# Altium integrated library Switches.IntLib: 20 symbols
Pins are listed as number, name and electrical type; pins without a type are passive.

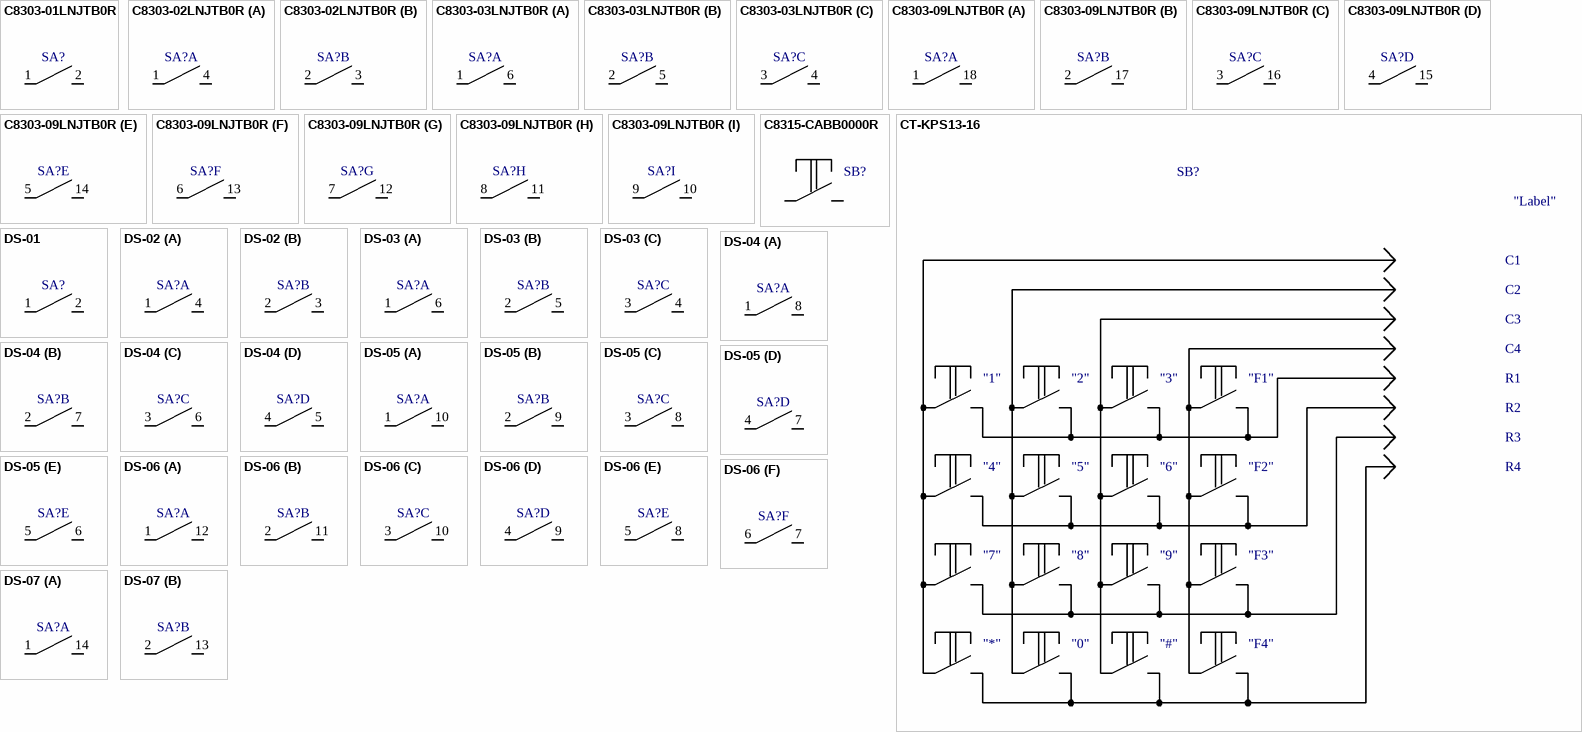
[diagram p0: symbols C8303-01LNJTB0R to DS-07]

## C8303-01LNJTB0R
designator SA?  (value not drawn)
DIP switch SMT; Manufacturer: Hsuan Mao Technology; PartNumber: C8303-01LNJTB0R; Name: Переключатель C8303-01LNJTB0R; 1Ccode: *; 1Cname: *; 1CfullName: *; 1Cgroup: *; 1Carticle: *; ComponentLink1Description: DatasheetLink; ComponentLink1URL: http://www.hsm.net.tw/upload_file/img_fckeditor/file/C8-SPEC/C8303-01XXJXB0R(S362).pdf; Case: *
footprint C8303-01 (2.54mm Dip Switch SMT)
pins: 1, 2

## C8303-02LNJTB0R
designator SA?  (value not drawn)
DIP switch SMT; Manufacturer: Hsuan Mao Technology; PartNumber: C8303-03LNJTB0R; Name: Переключатель C8303-03LNJTB0R; 1Ccode: *; 1Cname: *; 1CfullName: *; 1Cgroup: *; 1Carticle: *; ComponentLink1Description: DatasheetLink; ComponentLink1URL: http://www.hsm.net.tw/upload_file/img_fckeditor/file/C8-SPEC/C8303-XXXXJXB0R(S362)02~12P.pdf; Case: *
footprint C8303-02 (2.54mm Dip Switch SMT)
part A pins: 1, 4
part B pins: 2, 3

## C8303-03LNJTB0R
designator SA?  (value not drawn)
DIP switch SMT; Manufacturer: Hsuan Mao Technology; PartNumber: C8303-03LNJTB0R; Name: Переключатель C8303-03LNJTB0R; 1Ccode: *; 1Cname: *; 1CfullName: *; 1Cgroup: *; 1Carticle: *; ComponentLink1Description: DatasheetLink; ComponentLink1URL: http://www.hsm.net.tw/upload_file/img_fckeditor/file/C8-SPEC/C8303-XXXXJXB0R(S362)02~12P.pdf; Case: *
footprint C8303-03 (2.54mm Dip Switch SMT)
part A pins: 1, 6
part B pins: 2, 5
part C pins: 3, 4

## C8303-09LNJTB0R
designator SA?  (value not drawn)
DIP switch SMT; Manufacturer: Hsuan Mao Technology; PartNumber: C8303-09LNJTB0R; Name: Переключатель C8303-09LNJTB0R; 1Ccode: *; 1Cname: *; 1CfullName: *; 1Cgroup: *; 1Carticle: *; ComponentLink1Description: DatasheetLink; ComponentLink1URL: http://www.hsm.net.tw/upload_file/img_fckeditor/file/C8-SPEC/C8303-XXXXJXB0R(S362)02~12P.pdf; Case: *
footprint C8303-09 (2.54mm Dip Switch SMT)
part A pins: 1, 18
part B pins: 2, 17
part C pins: 3, 16
part D pins: 4, 15
part E pins: 5, 14
part F pins: 6, 13
part G pins: 7, 12
part H pins: 8, 11
part I pins: 9, 10

## C8315-CABB0000R
designator SB?  (value not drawn)
Tact Switch 7mm; Manufacturer: Hsuan Mao Technology; PartNumber: C8315-CABB0000R; 1Ccode: М00046460; 1Cname: КнопкаTS-A3PS-130 (C8315-CABBOOOO HSM) SWT-6х6х7; 1Cgroup: 01010802; 1Carticle: 35137; Name: Кнопка C8315-CABB0000R; 1CfullName: КнопкаTS-A3PS-130 (C8315-CABBOOOO HSM) SWT-6х6х7; ComponentLink1Description: DatasheetLink; ComponentLink1URL: *
footprint C8315 (Tact button 6mm)
pins: 1, 2

## CT-KPS13-16
designator SB?  Circuit4: C4  Circuit5: R1  Circuit6: R2  Circuit7: R3  Circuit8: R4  Circuit3: C3  Circuit1: C1  Circuit2: C2  Label: "Label"  (hidden comment: *)
Keypad 8 keys
footprint CT-KPS13-16 (Keypad 16 keys)
2 alternate drawings of the same symbol
text: "1"; "2"; "3"; "F1"; "4"; "5"; "6"; "F2"; "7"; "8"; "9"; "F3"; "*"; "0"; "#"; "F4"

## DS-01
designator SA?  (value not drawn)
DIP switch; 1Ccode: *; 1Cname: *; 1CfullName: *; 1Cgroup: *; 1Carticle: *; Manufacturer: *; Name: *; PartNumber: *; ComponentLink1Description: DatasheetLink; ComponentLink1URL: *; Case: *
footprint DS-01 (Side Type Dip Switch)
pins: 1, 2

## DS-02
designator SA?  (value not drawn)
DIP switch
footprint DS-02 (Side Type Dip Switch)
part A pins: 1, 4
part B pins: 2, 3

## DS-03
designator SA?  (value not drawn)
DIP switch; 1Ccode: *; 1Cname: *; 1CfullName: *; 1Cgroup: *; 1Carticle: *; Manufacturer: *; Name: *; PartNumber: *; ComponentLink1Description: DatasheetLink; ComponentLink1URL: *; Case: *
footprint DS-03 (Side Type Dip Switch)
part A pins: 1, 6
part B pins: 2, 5
part C pins: 3, 4

## DS-04
designator SA?  (value not drawn)
DIP switch
footprint DS-04 (Side Type Dip Switch)
part A pins: 1, 8
part B pins: 2, 7
part C pins: 3, 6
part D pins: 4, 5

## DS-05
designator SA?  (value not drawn)
DIP switch
footprint DS-05 (Side Type Dip Switch)
part A pins: 1, 10
part B pins: 2, 9
part C pins: 3, 8
part D pins: 4, 7
part E pins: 5, 6

## DS-06
designator SA?  (value not drawn)
DIP switch
footprint DS-06 (Side Type Dip Switch)
part A pins: 1, 12
part B pins: 2, 11
part C pins: 3, 10
part D pins: 4, 9
part E pins: 5, 8
part F pins: 6, 7

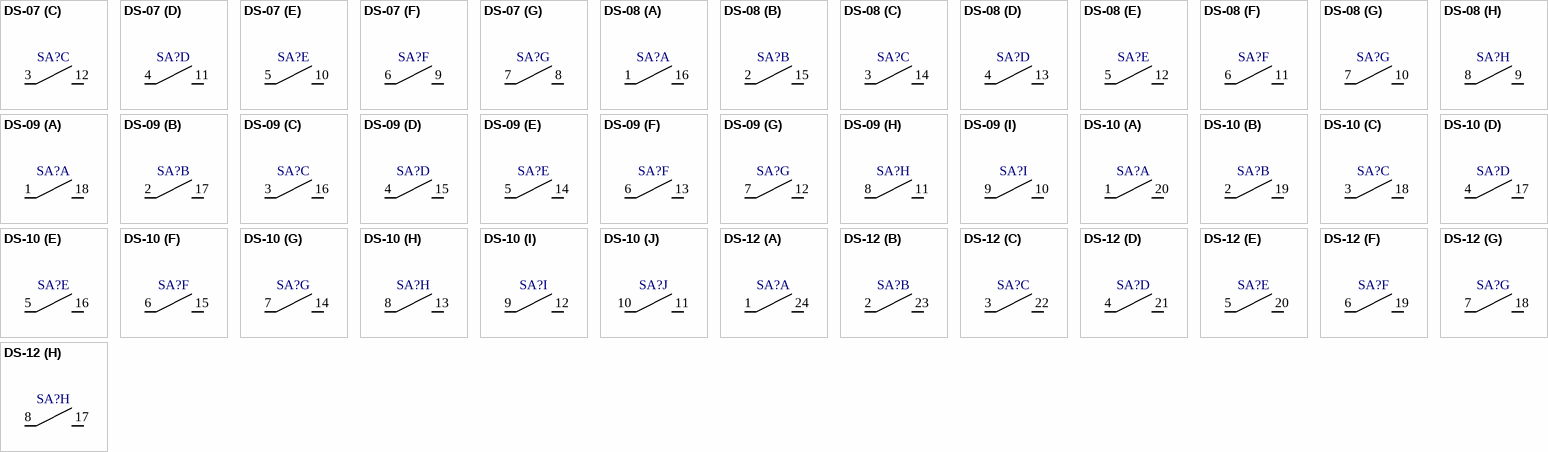
[diagram p1: symbols DS-07 to DS-12]

## DS-07
designator SA?  (value not drawn)
DIP switch
footprint DS-07 (DS-Side Type Dip Switch)
part A pins: 1, 14
part B pins: 2, 13
part C pins: 3, 12
part D pins: 4, 11
part E pins: 5, 10
part F pins: 6, 9
part G pins: 7, 8

## DS-08
designator SA?  (value not drawn)
DIP switch
footprint DS-08 (KLS7-DS-Side Type Dip Switch)
part A pins: 1, 16
part B pins: 2, 15
part C pins: 3, 14
part D pins: 4, 13
part E pins: 5, 12
part F pins: 6, 11
part G pins: 7, 10
part H pins: 8, 9

## DS-09
designator SA?  (value not drawn)
DIP switch; 1Ccode: *; 1Cname: *; 1CfullName: *; 1Cgroup: *; 1Carticle: *; Manufacturer: *; Name: *; PartNumber: *; ComponentLink1Description: DatasheetLink; ComponentLink1URL: *; Case: *
footprint DS-09 (Side Type Dip Switch)
part A pins: 1, 18
part B pins: 2, 17
part C pins: 3, 16
part D pins: 4, 15
part E pins: 5, 14
part F pins: 6, 13
part G pins: 7, 12
part H pins: 8, 11
part I pins: 9, 10

## DS-10
designator SA?  (value not drawn)
DIP switch
footprint DS-10 (KLS7-DS-Side Type Dip Switch)
part A pins: 1, 20
part B pins: 2, 19
part C pins: 3, 18
part D pins: 4, 17
part E pins: 5, 16
part F pins: 6, 15
part G pins: 7, 14
part H pins: 8, 13
part I pins: 9, 12
part J pins: 10, 11

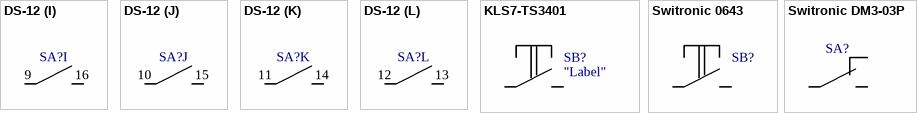
[diagram p2: symbols DS-12 to Switronic DM3-03P]

## DS-12
designator SA?  (value not drawn)
DIP switch
footprint DS-12 (Side Type Dip Switch)
part A pins: 1, 24
part B pins: 2, 23
part C pins: 3, 22
part D pins: 4, 21
part E pins: 5, 20
part F pins: 6, 19
part G pins: 7, 18
part H pins: 8, 17
part I pins: 9, 16
part J pins: 10, 15
part K pins: 11, 14
part L pins: 12, 13

## KLS7-TS3401
designator SB?  Label: "Label"  (hidden comment: *)
Tact Switch 3x4mm
footprint KLS7-TS3401 (Tact Switch 3x4mm)
pins: 1, 2

## Switronic 0643
designator SB?  (value not drawn)
06 Series Tact Switches; 1Ccode: *; 1Cname: *; 1CfullName: *; 1Cgroup: *; 1Carticle: *; Manufacturer: *; Name: *; PartNumber: *; ComponentLink1Description: DatasheetLink; ComponentLink1URL: *
footprint Switronic 0643 (Tact button 6mm)
pins: 1, 2

## Switronic DM3-03P
designator SA?  (value not drawn)
Micro Switch
footprint Switronic DM3-03P (Micro Switch)
footprint Switronic DM3-03P w/o toggle (Micro Switch)
pins: 1 COM, 2 NO, 3 NC